# Altium footprint library A676_RA_4X4X42.PcbLib: 1 footprints
Each footprint in its own frame and in the unit in brackets; x right, y up, seen from the top. Pads: shape width x height; smd on the part's side, far side on the other; paste and mask are expansions set on the pad; w line width, h text height; cw(c..) or ccw(c..) is an arc to the next point about the centre after c.
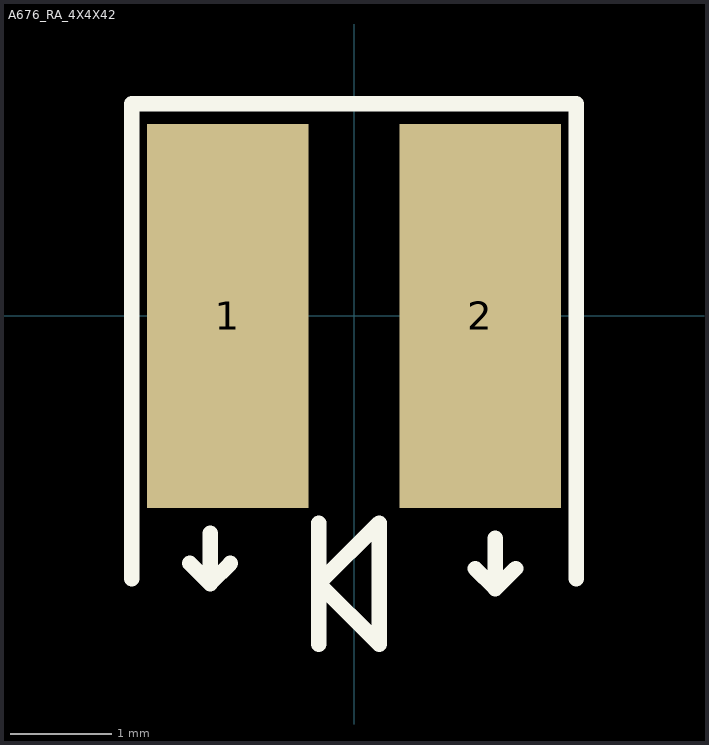
[diagram p0: the footprint, top view; thin cyan lines are the x and y axes]

## A676_RA_4X4X42 [mm]
pads (2):
  rect 1.6x3.8 smd: 1(-1.25,0) 2(1.25,0)
Top Overlay:
  lines w0.152: -2.2,-2.6 -2.2,1.2 -2.2,2.1 ; -2.2,1.5 -2.2,2.1 ; -1.625,-2.45 -1.425,-2.65 ; -1.425,-2.15 -1.425,-2.65 ; -1.225,-2.45 -1.425,-2.65 ; -0.35,-3.249 -0.35,-2.649 ; -0.35,-2.049 -0.35,-2.649 ; 1.2,-2.5 1.4,-2.7 ; 1.4,-2.2 1.4,-2.7 ; 1.6,-2.5 1.4,-2.7 ; 2.2,-2.6 2.2,1.3 2.2,2.1 ; 2.2,1.5 2.2,2.1 ; -2.2,2.1 2.2,2.1 ; -0.35,-2.649 0.25,-2.049 0.25,-2.649 0.25,-3.249 -0.35,-2.649